# EAGLE library part ADS114S08 (library ADS114S08)
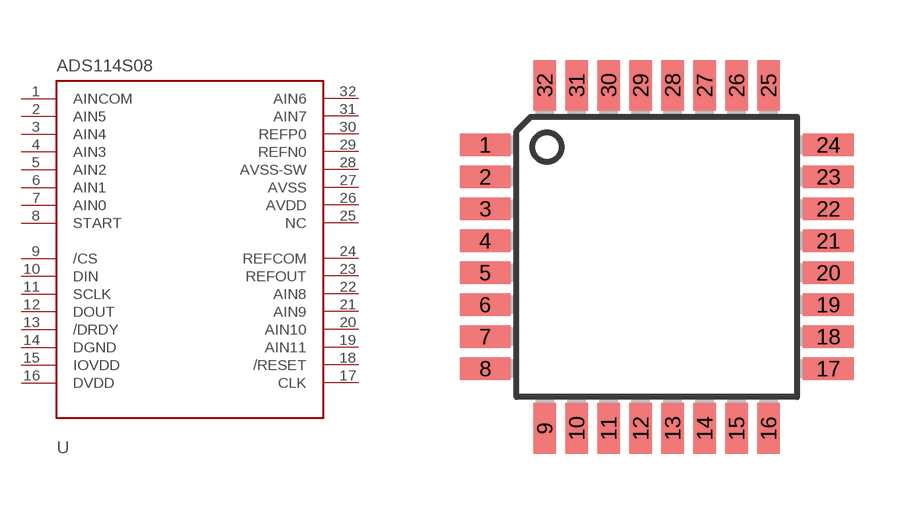
[diagram p0: symbol with the pads of TQFP32-08; footprint TQFP32-08]

Designator prefix -

## ADS114S08  [TQFP32-08]
1  AINCOM
2  AIN5
3  AIN4
4  AIN3  pwr
5  AIN2
6  AIN1
7  AIN0
8  START  in
9  /CS  in
10  DIN  in
11  SCLK  in
12  DOUT  out
13  /DRDY  out
14  DGND  pwr
15  IOVDD  pwr
16  DVDD  pwr
17  CLK  in
18  /RESET  in
19  AIN11
20  AIN10
21  AIN9
22  AIN8
23  REFOUT  pwr
24  REFCOM  pwr
25  NC  pas
26  AVDD  pwr
27  AVSS  pwr
28  AVSS-SW  pwr
29  REFN0  in
30  REFP0  in
31  AIN7  in
32  AIN6  in

## Footprint TQFP32-08 (pad centres in mm)
Thin Plasic Quad Flat Package Grid 0.8 mm
smd 1.27 x 0.559: 1 -4.293,2.8; 2 -4.293,2; 3 -4.293,1.2; 4 -4.293,0.4; 5 -4.293,-0.4; 6 -4.293,-1.2; 7 -4.293,-2; 8 -4.293,-2.8; 17 4.293,-2.8; 18 4.293,-2; 19 4.293,-1.2; 20 4.293,-0.4; 21 4.293,0.4; 22 4.293,1.2; 23 4.293,2; 24 4.293,2.8
smd 0.559 x 1.27: 9 -2.8,-4.293; 10 -2,-4.293; 11 -1.2,-4.293; 12 -0.4,-4.293; 13 0.4,-4.293; 14 1.2,-4.293; 15 2,-4.293; 16 2.8,-4.293; 25 2.8,4.293; 26 2,4.293; 27 1.2,4.293; 28 0.4,4.293; 29 -0.4,4.293; 30 -1.2,4.293; 31 -2,4.293; 32 -2.8,4.293